# EAGLE library part CON_01X19 (library mfconnectors)
Library: MF_Connectors Description: Header Connector with 19 Positions and 01 Rows. Use the LABEL Attribute to label the pin on the schematic and PCB. You can remove the attributes on the PCB by using the SMASH function on the part and then deleting the text.
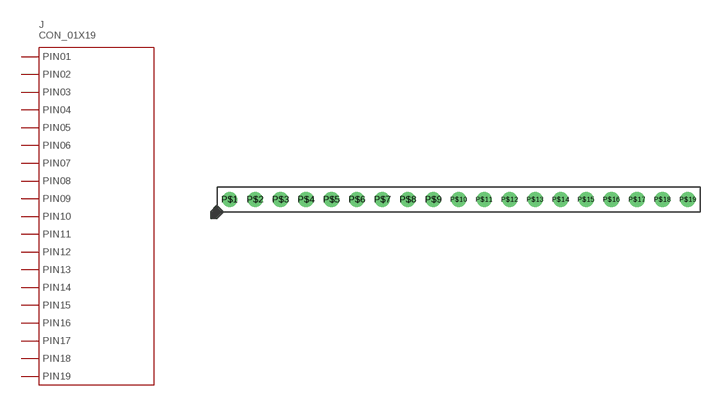
[diagram p16: symbol with the pads of PTH_2.54MM_01X19; footprint PTH_2.54MM_01X19]

Designator prefix J

## CON_01X19_PTH_2.54MM (HOUSEPART: YES; MPN: MF-CON-2.54mm-01x19; POPULATE: 1; URL: URL: https://factory.macrofab.com/part/MF-CON-2.54mm-01x19; VALUE: MF-CON-2.54mm-01x19)  [PTH_2.54MM_01X19]
P$1  PIN1
P$2  PIN2
P$3  PIN3
P$4  PIN4
P$5  PIN5
P$6  PIN6
P$7  PIN7
P$8  PIN8
P$9  PIN9
P$10  PIN10
P$11  PIN11
P$12  PIN12
P$13  PIN13
P$14  PIN14
P$15  PIN15
P$16  PIN16
P$17  PIN17
P$18  PIN18
P$19  PIN19

## Footprint PTH_2.54MM_01X19 (pad centres in mm)
Description: Package for 2.54MM Pitch Header 19 Position. Based on 4UCON 00834.
drill 1: P$1 -22.86,0; P$2 -20.32,0; P$3 -17.78,0; P$4 -15.24,0; P$5 -12.7,0; P$6 -10.16,0; P$7 -7.62,0; P$8 -5.08,0; P$9 -2.54,0; P$10 0,0; P$11 2.54,0; P$12 5.08,0; P$13 7.62,0; P$14 10.16,0; P$15 12.7,0; P$16 15.24,0; P$17 17.78,0; P$18 20.32,0; P$19 22.86,0